# Altium schematic symbol library varistor.SCHLIB: 35 symbols
Pins are listed as number, name and electrical type; pins without a type are passive.

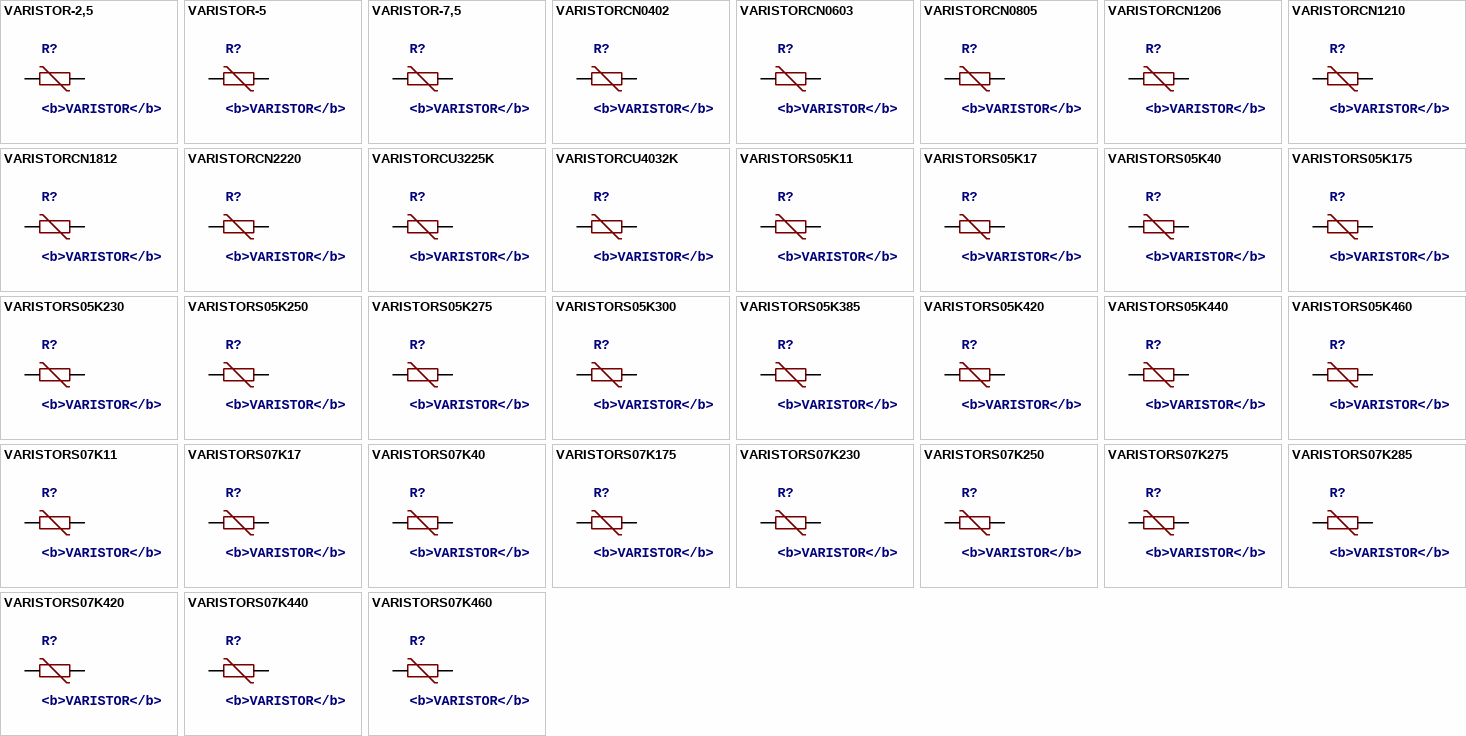
[diagram p0: symbols VARISTOR-2,5 to VARISTORS07K460]

## VARISTOR-2,5
designator R?, comment <b>VARISTOR</b>
footprint R-5
pins: 1, 2

## VARISTOR-5
designator R?, comment <b>VARISTOR</b>
footprint R-5
pins: 1, 2

## VARISTOR-7,5
designator R?, comment <b>VARISTOR</b>
footprint R-7,5
pins: 1, 2

## VARISTORCN0402
designator R?, comment <b>VARISTOR</b>
footprint CT/CN0402
pins: 1, 2

## VARISTORCN0603
designator R?, comment <b>VARISTOR</b>
footprint CT/CN0603
pins: 1, 2

## VARISTORCN0805
designator R?, comment <b>VARISTOR</b>
footprint CT/CN0805
pins: 1, 2

## VARISTORCN1206
designator R?, comment <b>VARISTOR</b>
footprint CT/CN1206
pins: 1, 2

## VARISTORCN1210
designator R?, comment <b>VARISTOR</b>
footprint CT/CN1210
pins: 1, 2

## VARISTORCN1812
designator R?, comment <b>VARISTOR</b>
footprint CT/CN1812
pins: 1, 2

## VARISTORCN2220
designator R?, comment <b>VARISTOR</b>
footprint CT/CN2220
pins: 1, 2

## VARISTORCU3225K
designator R?, comment <b>VARISTOR</b>
footprint CU3225K
pins: 1, 2

## VARISTORCU4032K
designator R?, comment <b>VARISTOR</b>
footprint CU4032K
pins: 1, 2

## VARISTORS05K11
designator R?, comment <b>VARISTOR</b>
footprint S05K11
pins: 1, 2

## VARISTORS05K17
designator R?, comment <b>VARISTOR</b>
footprint S05K17
pins: 1, 2

## VARISTORS05K40
designator R?, comment <b>VARISTOR</b>
footprint S05K40
pins: 1, 2

## VARISTORS05K175
designator R?, comment <b>VARISTOR</b>
footprint S05K175
pins: 1, 2

## VARISTORS05K230
designator R?, comment <b>VARISTOR</b>
footprint S05K230
pins: 1, 2

## VARISTORS05K250
designator R?, comment <b>VARISTOR</b>
footprint S05K250
pins: 1, 2

## VARISTORS05K275
designator R?, comment <b>VARISTOR</b>
footprint S05K275
pins: 1, 2

## VARISTORS05K300
designator R?, comment <b>VARISTOR</b>
footprint S05K300
pins: 1, 2

## VARISTORS05K385
designator R?, comment <b>VARISTOR</b>
footprint S05K385
pins: 1, 2

## VARISTORS05K420
designator R?, comment <b>VARISTOR</b>
footprint S05K420
pins: 1, 2

## VARISTORS05K440
designator R?, comment <b>VARISTOR</b>
footprint S05K440
pins: 1, 2

## VARISTORS05K460
designator R?, comment <b>VARISTOR</b>
footprint S05K460
pins: 1, 2

## VARISTORS07K11
designator R?, comment <b>VARISTOR</b>
footprint S07K11
pins: 1, 2

## VARISTORS07K17
designator R?, comment <b>VARISTOR</b>
footprint S07K17
pins: 1, 2

## VARISTORS07K40
designator R?, comment <b>VARISTOR</b>
footprint S07K40
pins: 1, 2

## VARISTORS07K175
designator R?, comment <b>VARISTOR</b>
footprint S07K175
pins: 1, 2

## VARISTORS07K230
designator R?, comment <b>VARISTOR</b>
footprint S07K230
pins: 1, 2

## VARISTORS07K250
designator R?, comment <b>VARISTOR</b>
footprint S07K250
pins: 1, 2

## VARISTORS07K275
designator R?, comment <b>VARISTOR</b>
footprint S07K275
pins: 1, 2

## VARISTORS07K285
designator R?, comment <b>VARISTOR</b>
footprint S07K385
pins: 1, 2

## VARISTORS07K420
designator R?, comment <b>VARISTOR</b>
footprint S07K420
pins: 1, 2

## VARISTORS07K440
designator R?, comment <b>VARISTOR</b>
footprint S07K440
pins: 1, 2

## VARISTORS07K460
designator R?, comment <b>VARISTOR</b>
footprint S07K460
pins: 1, 2